# EAGLE library part HTRC11001T/03EE,11 (library NXP_By_element14_Batch_1)
HITAG reader chip
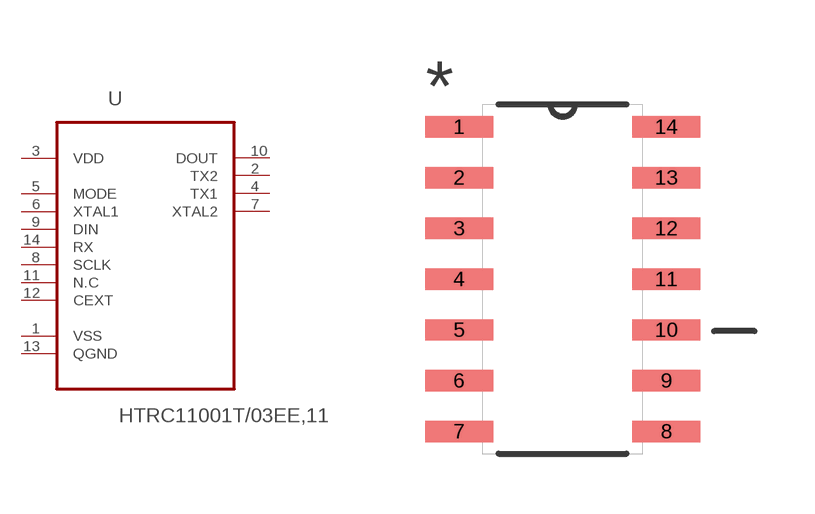
[diagram p290: symbol with the pads of SOIC127P600X175-14N; footprint SOIC127P600X175-14N]

Designator prefix U

## HTRC11001T/03EE,11 (MPN: HTRC11001T/03EE,11; OC_FARNELL: -; OC_NEWARK: 70R5371; PACKAGE: SOIC-14; SUPPLIER: NXP)  [SOIC127P600X175-14N]
1  VSS  pwr
2  TX2  out
3  VDD  pwr
4  TX1  pas
5  MODE  out
6  XTAL1  in
7  XTAL2  out
8  SCLK  in
9  DIN  in
10  DOUT  out
11  N.C  nc
12  CEXT  in
13  QGND  pas
14  RX  in

## Footprint SOIC127P600X175-14N (pad centres in mm)
smd 1.702 x 0.533: 1 -2.591,3.81; 2 -2.591,2.54; 3 -2.591,1.27; 4 -2.591,0; 5 -2.591,-1.27; 6 -2.591,-2.54; 7 -2.591,-3.81; 8 2.591,-3.81; 9 2.591,-2.54; 10 2.591,-1.27; 11 2.591,0; 12 2.591,1.27; 13 2.591,2.54; 14 2.591,3.81